# Altium footprint library ADAFRUIT_ULT_GPS.PcbLib: 1 footprints
Each footprint in its own frame and in the unit in brackets; x right, y up, seen from the top. Pads: shape width x height; smd on the part's side, far side on the other; paste and mask are expansions set on the pad; w line width, h text height; cw(c..) or ccw(c..) is an arc to the next point about the centre after c.
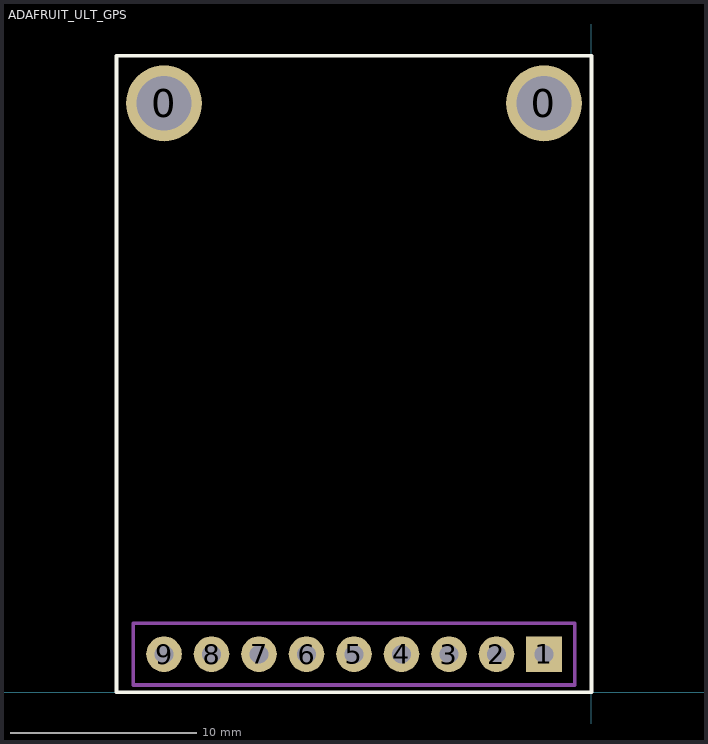
[diagram p0: the footprint, top view; thin cyan lines are the x and y axes]

## ADAFRUIT_ULT_GPS [mil]
pads (11):
  round 160 hole 115: 0(-900,1240) 0(-100,1240)
  rect 75x75 hole 39.37: 1(-100,80)
  round 75 hole 39.37: 2(-200,80) 3(-300,80) 4(-400,80) 5(-500,80) 6(-600,80) 7(-700,80) 8(-800,80) 9(-900,80)
Top Overlay:
  lines w7.87: -1000,0 -1000,1340 0,1340 0,0 -1000,0
Mechanical 13:
  lines w7.87: -965,15 -965,145 -35,145 -35,35 -35,15 -965,15